# EAGLE library part JST-XH-10-PIN (library Connectors)
JST XH Connector 2 Pin Wire to board connector. Pitch: 2,54 mm, (0.100") Number of pins: 10 Created by Rembrandt Electronics www.rembrandtelectronics.com
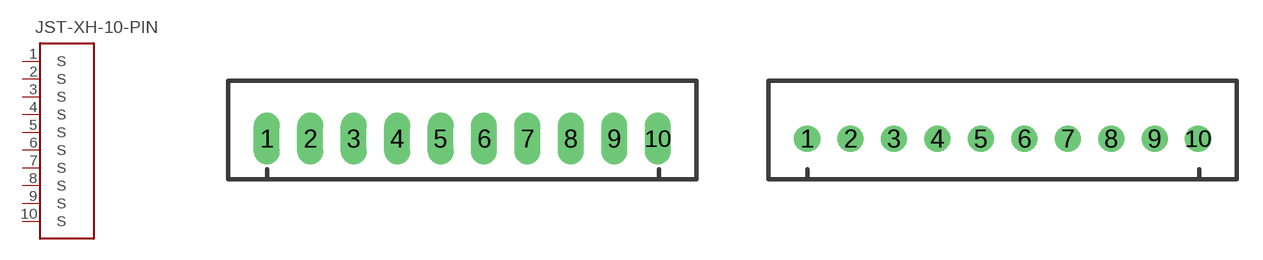
[diagram p4: symbol with the pads of JST-XH-10-PACKAGE-LONG-PAD; footprints JST-XH-10-PACKAGE-LONG-PAD, JST-XH-10-PACKAGE-ROUND-PAD]

Designator prefix X; gates 1=MV 2=M 3=M 4=M 5=M 6=M 7=M 8=M 9=M 10=M G$1=BOX_10

## JST-XH-10-PIN-LONG-PAD  [JST-XH-10-PACKAGE-LONG-PAD]
1  1:S  pas
2  2:S  pas
3  3:S  pas
4  4:S  pas
5  5:S  pas
6  6:S  pas
7  7:S  pas
8  8:S  pas
9  9:S  pas
10  10:S  pas

## JST-XH-10-PIN-ROUND-PAD  [JST-XH-10-PACKAGE-ROUND-PAD]
Pads as for JST-XH-10-PACKAGE-LONG-PAD

## Footprint JST-XH-10-PACKAGE-LONG-PAD (pad centres in mm)
JST XH Connector Long Pads (Package) Wire to board connector. Pitch: 2,54 mm, (0.100") Number of pins: 10 Created by Rembrandt Electronics www.rembrandtelectronics.com
drill 1.016 long: 1 -11.43,0; 2 -8.89,0; 3 -6.35,0; 4 -3.81,0; 5 -1.27,0; 6 1.27,0; 7 3.81,0; 8 6.35,0; 9 8.89,0; 10 11.43,0

## Footprint JST-XH-10-PACKAGE-ROUND-PAD (pad centres in mm)
JST XH Connector Round Pads (Package) Wire to board connector. Pitch: 2,54 mm, (0.100") Number of pins: 10 Created by Rembrandt Electronics www.rembrandtelectronics.com
drill 1.016: 1 -11.43,0; 2 -8.89,0; 3 -6.35,0; 4 -3.81,0; 5 -1.27,0; 6 1.27,0; 7 3.81,0; 8 6.35,0; 9 8.89,0; 10 11.43,0